# Altium footprint library 400236.PcbLib: 96 footprints (part 3 of 6)
Each footprint in its own frame and in the unit in brackets; x right, y up, seen from the top. Pads: shape width x height; smd on the part's side, far side on the other; paste and mask are expansions set on the pad; w line width, h text height; cw(c..) or ccw(c..) is an arc to the next point about the centre after c.
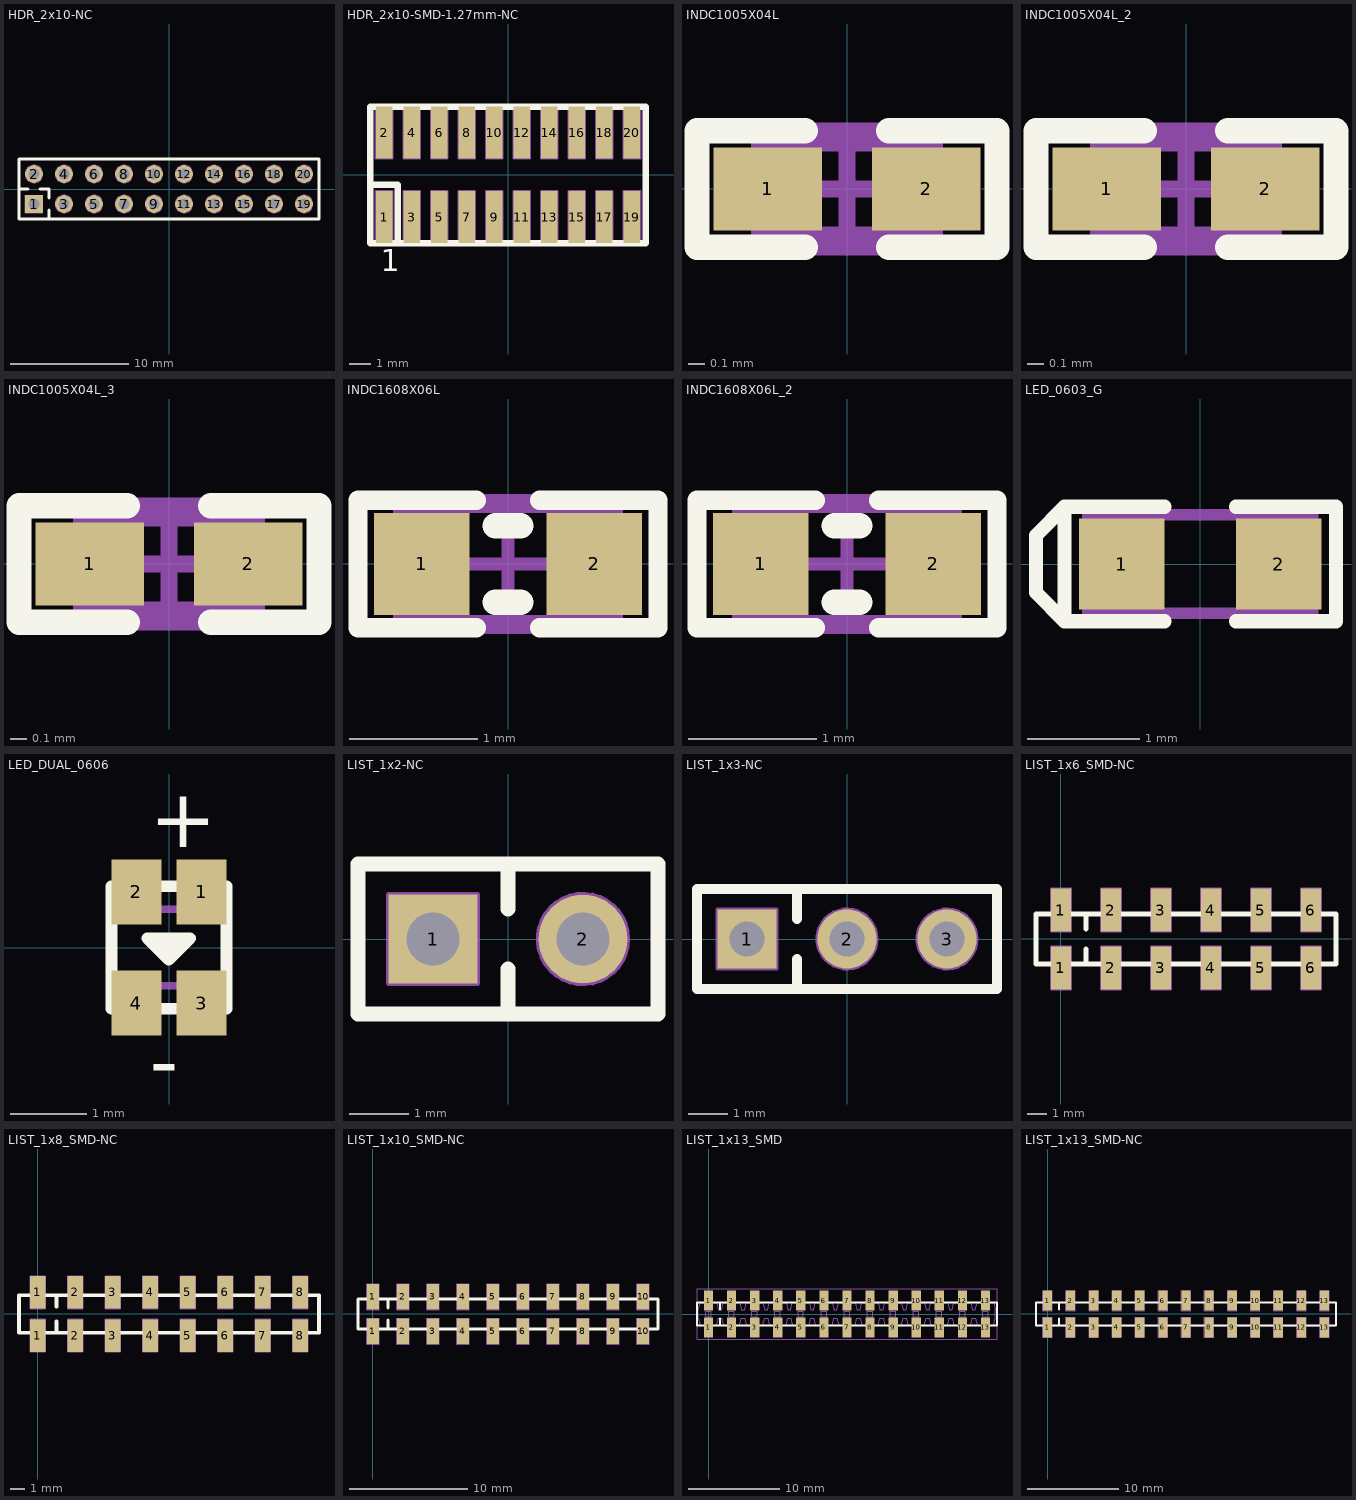
[diagram p2: the footprints below, top view; thin cyan lines are the x and y axes]

## HDR_2x10-NC [mm]
pads (20):
  rect 1.5x1.5 hole 0.9: 1(-11.43,-1.27)
  round 1.5 hole 0.9: 2(-11.43,1.27) 3(-8.89,-1.27) 4(-8.89,1.27) 5(-6.35,-1.27) 6(-6.35,1.27) 7(-3.81,-1.27) 8(-3.81,1.27) 9(-1.27,-1.27) 10(-1.27,1.27) 11(1.27,-1.27) 12(1.27,1.27) 13(3.81,-1.27) 14(3.81,1.27) 15(6.35,-1.27) 16(6.35,1.27) 17(8.89,-1.27) 18(8.89,1.27) 19(11.43,-1.27) 20(11.43,1.27)
Top Overlay:
  lines w0.254: -12.7,0 -11.938,0 ; -10.922,0 -10.16,0 -10.16,-0.762 ; -10.16,-2.54 -10.16,-1.778 ; -12.7,-2.54 -12.7,2.54 12.7,2.54 12.7,-2.54 -12.7,-2.54
Mechanical 7:
  circle w0.1: c-11.43,-1.27 r0.45
  circle w0.1: c-8.89,-1.27 r0.45
  circle w0.1: c-8.89,-1.27 r0.75
  circle w0.1: c-11.43,1.27 r0.75
  circle w0.1: c-11.43,1.27 r0.45
  circle w0.1: c-8.89,1.27 r0.75
  circle w0.1: c-8.89,1.27 r0.45
  circle w0.1: c-6.35,1.27 r0.45
  circle w0.1: c-6.35,1.27 r0.75
  circle w0.1: c-6.35,-1.27 r0.75
  circle w0.1: c-6.35,-1.27 r0.45
  circle w0.1: c-3.81,1.27 r0.45
  circle w0.1: c-3.81,1.27 r0.75
  circle w0.1: c-3.81,-1.27 r0.75
  circle w0.1: c-3.81,-1.27 r0.45
  circle w0.1: c-1.27,1.27 r0.45
  circle w0.1: c-1.27,1.27 r0.75
  circle w0.1: c-1.27,-1.27 r0.75
  circle w0.1: c-1.27,-1.27 r0.45
  circle w0.1: c1.27,1.27 r0.45
  circle w0.1: c1.27,1.27 r0.75
  circle w0.1: c1.27,-1.27 r0.75
  circle w0.1: c1.27,-1.27 r0.45
  circle w0.1: c3.81,1.27 r0.45
  circle w0.1: c3.81,1.27 r0.75
  circle w0.1: c3.81,-1.27 r0.75
  circle w0.1: c3.81,-1.27 r0.45
  circle w0.1: c6.35,1.27 r0.45
  circle w0.1: c6.35,1.27 r0.75
  circle w0.1: c6.35,-1.27 r0.75
  circle w0.1: c6.35,-1.27 r0.45
  circle w0.1: c8.89,1.27 r0.45
  circle w0.1: c8.89,1.27 r0.75
  circle w0.1: c8.89,-1.27 r0.75
  circle w0.1: c8.89,-1.27 r0.45
  circle w0.1: c11.43,1.27 r0.45
  circle w0.1: c11.43,1.27 r0.75
  circle w0.1: c11.43,-1.27 r0.75
  circle w0.1: c11.43,-1.27 r0.45
  lines w0.1: -12.7,0 -11.938,0 ; -10.922,0 -10.16,0 -10.16,-0.762 ; -10.16,-2.54 -10.16,-1.778 ; -12.7,-2.54 12.7,-2.54 12.7,2.54 -12.7,2.54 -12.7,-2.54 ; -12.18,-2.02 -12.18,-0.52 -10.68,-0.52 -10.68,-2.02 -12.18,-2.02
  text ".Designator" at -0.525,-0.1 h0.31
Mechanical 8:
  circle w0.1: c11.43,-1.27 r0.45
  circle w0.1: c11.43,-1.27 r0.75
  circle w0.1: c11.43,1.27 r0.75
  circle w0.1: c11.43,1.27 r0.45
  circle w0.1: c8.89,-1.27 r0.45
  circle w0.1: c8.89,-1.27 r0.75
  circle w0.1: c8.89,1.27 r0.75
  circle w0.1: c8.89,1.27 r0.45
  circle w0.1: c6.35,-1.27 r0.45
  circle w0.1: c6.35,-1.27 r0.75
  circle w0.1: c6.35,1.27 r0.75
  circle w0.1: c6.35,1.27 r0.45
  circle w0.1: c3.81,-1.27 r0.45
  circle w0.1: c3.81,-1.27 r0.75
  circle w0.1: c3.81,1.27 r0.75
  circle w0.1: c3.81,1.27 r0.45
  circle w0.1: c1.27,-1.27 r0.45
  circle w0.1: c1.27,-1.27 r0.75
  circle w0.1: c1.27,1.27 r0.75
  circle w0.1: c1.27,1.27 r0.45
  circle w0.1: c-1.27,-1.27 r0.45
  circle w0.1: c-1.27,-1.27 r0.75
  circle w0.1: c-1.27,1.27 r0.75
  circle w0.1: c-1.27,1.27 r0.45
  circle w0.1: c-3.81,-1.27 r0.45
  circle w0.1: c-3.81,-1.27 r0.75
  circle w0.1: c-3.81,1.27 r0.75
  circle w0.1: c-3.81,1.27 r0.45
  circle w0.1: c-6.35,-1.27 r0.45
  circle w0.1: c-6.35,-1.27 r0.75
  circle w0.1: c-6.35,1.27 r0.75
  circle w0.1: c-6.35,1.27 r0.45
  circle w0.1: c-8.89,1.27 r0.45
  circle w0.1: c-8.89,1.27 r0.75
  circle w0.1: c-11.43,1.27 r0.45
  circle w0.1: c-11.43,1.27 r0.75
  circle w0.1: c-8.89,-1.27 r0.75
  circle w0.1: c-8.89,-1.27 r0.45
  circle w0.1: c-11.43,-1.27 r0.45
  lines w0.1: -12.18,-2.02 -10.68,-2.02 -10.68,-0.52 -12.18,-0.52 -12.18,-2.02

## HDR_2x10-SMD-1.27mm-NC [mm]
pads (20):
  rect 0.76x2.4 smd paste-5: 1(-5.715,-1.95) 2(-5.715,1.95) 3(-4.445,-1.95) 4(-4.445,1.95) 5(-3.175,-1.95) 6(-3.175,1.95) 7(-1.905,-1.95) 8(-1.905,1.95) 9(-0.635,-1.95) 10(-0.635,1.95) 11(0.635,-1.95) 12(0.635,1.95) 13(1.905,-1.95) 14(1.905,1.95) 15(3.175,-1.95) 16(3.175,1.95) 17(4.445,-1.95) 18(4.445,1.95) 19(5.715,-1.95) 20(5.715,1.95)
Top Overlay:
  lines w0.3: -6.35,-0.45 -5.075,-0.45 -5.075,-3.15 ; -6.35,-3.15 6.35,-3.15 6.35,3.15 -6.35,3.15 -6.35,-3.15
  text "1" at -5.875,-4.45 h1.02
Mechanical 7:
  lines w0.1: -6.35,-3.15 -6.35,3.15 6.35,3.15 6.35,-3.15 -6.35,-3.15 ; -6.095,-3.15 -6.095,-0.75 -5.335,-0.75 -5.335,-3.15 -6.095,-3.15 ; -6.095,0.75 -6.095,3.15 -5.335,3.15 -5.335,0.75 -6.095,0.75 ; -4.825,-3.15 -4.825,-0.75 -4.065,-0.75 -4.065,-3.15 -4.825,-3.15 ; -4.825,0.75 -4.825,3.15 -4.065,3.15 -4.065,0.75 -4.825,0.75 ; -3.555,-3.15 -3.555,-0.75 -2.795,-0.75 -2.795,-3.15 -3.555,-3.15 ; -3.555,0.75 -2.795,0.75 -2.795,3.15 -3.555,3.15 -3.555,0.75 ; -2.285,-3.15 -2.285,-0.75 -1.525,-0.75 -1.525,-3.15 -2.285,-3.15 ; -2.285,0.75 -2.285,3.15 -1.525,3.15 -1.525,0.75 -2.285,0.75 ; -1.015,-3.15 -1.015,-0.75 -0.255,-0.75 -0.255,-3.15 -1.015,-3.15 ; -1.015,0.75 -1.015,3.15 -0.255,3.15 -0.255,0.75 -1.015,0.75 ; 0.255,-3.15 0.255,-0.75 1.015,-0.75 1.015,-3.15 0.255,-3.15 ; 0.255,0.75 0.255,3.15 1.015,3.15 1.015,0.75 0.255,0.75 ; 1.525,-3.15 1.525,-0.75 2.285,-0.75 2.285,-3.15 1.525,-3.15 ; 1.525,0.75 1.525,3.15 2.285,3.15 2.285,0.75 1.525,0.75 ; 2.795,-3.15 2.795,-0.75 3.555,-0.75 3.555,-3.15 2.795,-3.15 ; 2.795,0.75 2.795,3.15 3.555,3.15 3.555,0.75 2.795,0.75 ; 4.065,-3.15 4.065,-0.75 4.825,-0.75 4.825,-3.15 4.065,-3.15 ; 4.065,0.75 4.065,3.15 4.825,3.15 4.825,0.75 4.065,0.75 ; 5.335,-3.15 5.335,-0.75 6.095,-0.75 6.095,-3.15 5.335,-3.15 ; 5.335,0.75 5.335,3.15 6.095,3.15 6.095,0.75 5.335,0.75
  text ".Designator" at 0.483,0.152 h0.3

## INDC1005X04L [mm]
pads (2):
  rect 0.65x0.5 smd: 1(-0.475,0) 2(0.475,0)
Top Overlay:
  lines w0.152: -0.25,-0.35 -0.9,-0.35 -0.9,0.35 -0.25,0.35 ; 0.25,-0.35 0.9,-0.35 0.9,0.35 0.25,0.35
Mechanical 7:
  lines w0.1: -0.525,-0.275 -0.525,0.275 0.525,0.275 0.525,-0.275 -0.525,-0.275
  text ".Designator" at 0.264,0.161 h0.3
Mechanical 15:
  lines w0.1: -0.275,0 0.275,0 ; 0,-0.275 0,0.275 ; -0.9,-0.35 -0.9,0.35 0.9,0.35 0.9,-0.35 -0.9,-0.35
3D body "User Library-Chip Inductor 0402.step": height 0.5, standoff 0, extent -0.5,-0.3 0.5,0.3

## INDC1005X04L_2 [mm]
pads (2):
  rect 0.65x0.5 smd: 1(-0.475,0) 2(0.475,0)
Top Overlay:
  lines w0.152: -0.25,-0.35 -0.9,-0.35 -0.9,0.35 -0.25,0.35 ; 0.25,-0.35 0.9,-0.35 0.9,0.35 0.25,0.35
Mechanical 7:
  lines w0.1: -0.525,-0.275 -0.525,0.275 0.525,0.275 0.525,-0.275 -0.525,-0.275
  text ".Designator" at -0.406,-0.152 h0.3
Mechanical 15:
  lines w0.1: -0.275,0 0.275,0 ; 0,-0.275 0,0.275 ; -0.9,-0.35 -0.9,0.35 0.9,0.35 0.9,-0.35 -0.9,-0.35
3D body "User Library-Chip Inductor 0402.step": height 0.5, standoff 0, extent -0.5,-0.3 0.5,0.3

## INDC1005X04L_3 [mm]
pads (2):
  rect 0.65x0.5 smd: 1(-0.475,0) 2(0.475,0)
Top Overlay:
  lines w0.152: -0.25,-0.35 -0.9,-0.35 -0.9,0.35 -0.25,0.35 ; 0.25,-0.35 0.9,-0.35 0.9,0.35 0.25,0.35
Mechanical 7:
  lines w0.1: -0.525,-0.275 0.525,-0.275 0.525,0.275 -0.525,0.275 -0.525,-0.275
  text ".Designator" at -0.432,-0.152 h0.3
Mechanical 15:
  lines w0.1: -0.275,0 0.275,0 ; 0,-0.275 0,0.275 ; -0.9,-0.35 0.9,-0.35 0.9,0.35 -0.9,0.35 -0.9,-0.35
3D body "User Library-Chip Inductor 0402.step": height 0.5, standoff 0, extent -0.5,-0.3 0.5,0.3

## INDC1608X06L [mm]
pads (2):
  rect 0.75x0.8 smd: 1(-0.675,0) 2(0.675,0)
Top Overlay:
  lines w0.152: -0.25,-0.5 -1.175,-0.5 -1.175,0.5 -0.25,0.5 ; 0.25,-0.5 1.175,-0.5 1.175,0.5 0.25,0.5
  lines w0.2: -0.1,-0.3 0.1,-0.3 ; -0.1,0.3 0.1,0.3
Mechanical 7:
  lines w0.1: -0.85,-0.45 0.85,-0.45 0.85,0.45 -0.85,0.45 -0.85,-0.45
  text ".Designator" at 0.265,0.161 h0.3
Mechanical 15:
  lines w0.1: -0.45,0 0.45,0 ; 0,-0.45 0,0.45 ; -1.175,-0.5 -1.175,0.5 1.175,0.5 1.175,-0.5 -1.175,-0.5
3D body "User Library-Chip Inductor.step": height 0.8, standoff 0, extent -0.8,-0.475 0.8,0.475

## INDC1608X06L_2 [mm]
pads (2):
  rect 0.75x0.8 smd: 1(-0.675,0) 2(0.675,0)
Top Overlay:
  lines w0.152: -0.25,-0.5 -1.175,-0.5 -1.175,0.5 -0.25,0.5 ; 0.25,-0.5 1.175,-0.5 1.175,0.5 0.25,0.5
  lines w0.2: -0.1,-0.3 0.1,-0.3 ; -0.1,0.3 0.1,0.3
Mechanical 7:
  lines w0.1: -0.85,-0.45 0.85,-0.45 0.85,0.45 -0.85,0.45 -0.85,-0.45
  text ".Designator" at -0.252,-0.15 h0.3
Mechanical 15:
  lines w0.1: -0.45,0 0.45,0 ; 0,-0.45 0,0.45 ; -1.175,-0.5 -1.175,0.5 1.175,0.5 1.175,-0.5 -1.175,-0.5
3D body "User Library-Chip Inductor.step": height 0.8, standoff 0, extent -0.8,-0.475 0.8,0.475

## LED_0603_G [mil]
pads (2):
  rect 30x32 smd: 1(-27.5,0) 2(27.5,0)
Top Overlay:
  lines w5: -12.5,-20 -47.5,-20 ; -12.5,20 -47.5,20 ; 12.5,-20 47.5,-20 47.5,20 12.5,20 ; -47.5,-20 -57.5,-10 -57.5,10 -47.5,20 ; -47.5,-20 -47.5,20
Mechanical 7:
  lines w3.94: -27.56,-17.26 -27.56,17.26 ; -23.62,-17.26 -23.62,17.26 ; 23.62,-17.26 23.62,17.26 ; 27.56,-17.26 27.56,17.26 ; -39.37,-17.26 -39.37,17.26 39.37,17.26 39.37,-17.26 -39.37,-17.26
  text ".Designator" at -13.36,-5.15 h12
3D body "User Library-led_0603_green.step": height 23.62, standoff 0, extent -31.63,-15.75 32.15,15.75

## LED_DUAL_0606 [mm]
pads (4):
  rect 0.65x0.85 smd paste+0: 1(0.425,0.725) 2(-0.425,0.725) 3(0.425,-0.725) 4(-0.425,-0.725)
Top Overlay:
  region: -0.285,0.12 -0.005,-0.16 0.275,0.12
  lines w0.15: -0.75,-0.8 0.75,-0.8 ; -0.75,0.8 0.75,0.8
  lines w0.152: -0.75,-0.8 -0.75,0.8 ; 0.75,-0.8 0.75,0.8 ; -0.285,0.12 0.275,0.12 -0.005,-0.16 -0.285,0.12
  text "-" at -0.254,-1.845 h0.76
  text "+" at -0.254,1.305 h0.76
Mechanical 7:
  lines w0.1: -0.75,-0.5 0.75,-0.5 ; -0.75,0.5 0.75,0.5 ; -0.75,-0.8 -0.75,0.8 0.75,0.8 0.75,-0.8 -0.75,-0.8
  text ".Designator" at 0.564,0.137 h0.3
3D body: height 0.36, standoff 0.18, extent 0.235,-0.15 0.535,0.15
3D body: height 0.36, standoff 0.18, extent -0.525,-0.15 -0.225,0.15
3D body: height 0.55, standoff 0.18, extent -0.75,-0.55 0.75,0.55
3D body: height 0.18, standoff 0, extent -0.75,-0.8 0.75,0.8

## LIST_1x2-NC [mm]
pads (2):
  rect 1.5x1.5 hole 0.9: 1(-1.27,0)
  round 1.5 hole 0.9: 2(1.27,0)
Top Overlay:
  lines w0.254: 0,-1.27 0,-0.508 ; 0,0.508 0,1.27 ; -2.54,-1.27 2.54,-1.27 2.54,1.27 -2.54,1.27 -2.54,-1.27
Mechanical 7:
  circle w0.1: c1.27,0 r0.75
  circle w0.1: c1.27,0 r0.45
  circle w0.1: c-1.27,0 r0.45
  lines w0.1: 0,-1.27 0,-0.508 ; 0,0.508 0,1.27 ; -2.54,-1.27 -2.54,1.27 2.54,1.27 2.54,-1.27 -2.54,-1.27 ; -2.02,-0.75 -0.52,-0.75 -0.52,0.75 -2.02,0.75 -2.02,-0.75
  text ".Designator" at -0.4,-0.2 h0.38

## LIST_1x3-NC [mm]
pads (3):
  rect 1.5x1.5 hole 0.9: 1(-2.54,0)
  round 1.5 hole 0.9: 2(0,0) 3(2.54,0)
Top Overlay:
  lines w0.254: -1.27,-1.27 -1.27,-0.508 ; -1.27,0.508 -1.27,1.27 ; -3.81,-1.27 3.81,-1.27 3.81,1.27 -3.81,1.27 -3.81,-1.27
Mechanical 7:
  circle w0.1: c2.54,0 r0.75
  circle w0.1: c2.54,0 r0.45
  circle w0.1: c-2.54,0 r0.45
  circle w0.1: c0,0 r0.45
  circle w0.1: c0,0 r0.75
  lines w0.1: -1.27,-1.27 -1.27,-0.508 ; -1.27,0.508 -1.27,1.27 ; -3.81,-1.27 3.81,-1.27 3.81,1.27 -3.81,1.27 -3.81,-1.27 ; -3.29,-0.75 -3.29,0.75 -1.79,0.75 -1.79,-0.75 -3.29,-0.75
  text ".Designator" at -2.04,-0.2 h0.38

## LIST_1x6_SMD-NC [mm]
pads (12):
  rect 1.02x2.19 smd paste+0: 1(0,-1.465) 1(0,1.465) 2(2.54,-1.465) 2(2.54,1.465) 3(5.08,-1.465) 3(5.08,1.465) 4(7.62,-1.465) 4(7.62,1.465) 5(10.16,-1.465) 5(10.16,1.465) 6(12.7,-1.465) 6(12.7,1.465)
Top Overlay:
  lines w0.254: 1.27,-1.27 1.27,-0.508 ; 1.27,0.508 1.27,1.27 ; -1.27,-1.27 13.97,-1.27 13.97,1.27 -1.27,1.27 -1.27,-1.27
Mechanical 7:
  lines w0.1: -0.686,-1.27 -1.27,-1.27 -1.27,1.27 -0.686,1.27 ; 0.686,-1.27 1.854,-1.27 ; 0.686,1.27 1.854,1.27 ; 1.27,-1.27 1.27,-0.508 ; 1.27,0.508 1.27,1.27 ; 3.226,-1.27 4.394,-1.27 ; 3.226,1.27 4.394,1.27 ; 5.766,-1.27 6.934,-1.27 ; 5.766,1.27 6.934,1.27 ; 8.306,-1.27 9.474,-1.27 ; 8.306,1.27 9.474,1.27 ; 10.846,-1.27 12.014,-1.27 ; 10.846,1.27 12.014,1.27 ; 13.386,-1.27 13.97,-1.27 13.97,1.27 13.386,1.27 ; -0.51,-2.56 0.51,-2.56 0.51,-0.37 -0.51,-0.37 -0.51,-2.56 ; -0.51,0.37 -0.51,2.56 0.51,2.56 0.51,0.37 -0.51,0.37 ; 2.03,-2.56 3.05,-2.56 3.05,-0.37 2.03,-0.37 2.03,-2.56 ; 2.03,0.37 3.05,0.37 3.05,2.56 2.03,2.56 2.03,0.37 ; 4.57,-2.56 5.59,-2.56 5.59,-0.37 4.57,-0.37 4.57,-2.56 ; 4.57,0.37 5.59,0.37 5.59,2.56 4.57,2.56 4.57,0.37 ; 7.11,-2.56 8.13,-2.56 8.13,-0.37 7.11,-0.37 7.11,-2.56 ; 7.11,0.37 8.13,0.37 8.13,2.56 7.11,2.56 7.11,0.37 ; 9.65,-2.56 10.67,-2.56 10.67,-0.37 9.65,-0.37 9.65,-2.56 ; 9.65,0.37 10.67,0.37 10.67,2.56 9.65,2.56 9.65,0.37 ; 12.19,-2.56 13.21,-2.56 13.21,-0.37 12.19,-0.37 12.19,-2.56 ; 12.19,0.37 13.21,0.37 13.21,2.56 12.19,2.56 12.19,0.37
  text ".Designator" at 0.5,-0.2 h0.38

## LIST_1x8_SMD-NC [mm]
pads (16):
  rect 1.02x2.19 smd paste+0: 1(0,-1.465) 1(0,1.465) 2(2.54,-1.465) 2(2.54,1.465) 3(5.08,-1.465) 3(5.08,1.465) 4(7.62,-1.465) 4(7.62,1.465) 5(10.16,-1.465) 5(10.16,1.465) 6(12.7,-1.465) 6(12.7,1.465) 7(15.24,-1.465) 7(15.24,1.465) 8(17.78,-1.465) 8(17.78,1.465)
Top Overlay:
  lines w0.254: 1.27,-1.27 1.27,-0.508 ; 1.27,0.508 1.27,1.27 ; -1.27,-1.27 -1.27,1.27 19.05,1.27 19.05,-1.27 -1.27,-1.27
Mechanical 7:
  lines w0.1: -0.686,-1.27 -1.27,-1.27 -1.27,1.27 -0.686,1.27 ; 0.686,-1.27 1.854,-1.27 ; 0.686,1.27 1.854,1.27 ; 1.27,-1.27 1.27,-0.508 ; 1.27,0.508 1.27,1.27 ; 3.226,-1.27 4.394,-1.27 ; 3.226,1.27 4.394,1.27 ; 5.766,-1.27 6.934,-1.27 ; 5.766,1.27 6.934,1.27 ; 8.306,-1.27 9.474,-1.27 ; 8.306,1.27 9.474,1.27 ; 10.846,-1.27 12.014,-1.27 ; 10.846,1.27 12.014,1.27 ; 13.386,-1.27 14.554,-1.27 ; 13.386,1.27 14.554,1.27 ; 15.926,-1.27 17.094,-1.27 ; 15.926,1.27 17.094,1.27 ; 18.466,-1.27 19.05,-1.27 19.05,1.27 18.466,1.27 ; -0.51,-2.56 -0.51,-0.37 0.51,-0.37 0.51,-2.56 -0.51,-2.56 ; -0.51,0.37 0.51,0.37 0.51,2.56 -0.51,2.56 -0.51,0.37 ; 2.03,-2.56 2.03,-0.37 3.05,-0.37 3.05,-2.56 2.03,-2.56 ; 2.03,0.37 2.03,2.56 3.05,2.56 3.05,0.37 2.03,0.37 ; 4.57,-2.56 4.57,-0.37 5.59,-0.37 5.59,-2.56 4.57,-2.56 ; 4.57,0.37 4.57,2.56 5.59,2.56 5.59,0.37 4.57,0.37 ; 7.11,-2.56 7.11,-0.37 8.13,-0.37 8.13,-2.56 7.11,-2.56 ; 7.11,0.37 7.11,2.56 8.13,2.56 8.13,0.37 7.11,0.37 ; 9.65,-2.56 9.65,-0.37 10.67,-0.37 10.67,-2.56 9.65,-2.56 ; 9.65,0.37 9.65,2.56 10.67,2.56 10.67,0.37 9.65,0.37 ; 12.19,-2.56 12.19,-0.37 13.21,-0.37 13.21,-2.56 12.19,-2.56 ; 12.19,0.37 12.19,2.56 13.21,2.56 13.21,0.37 12.19,0.37 ; 14.73,-2.56 14.73,-0.37 15.75,-0.37 15.75,-2.56 14.73,-2.56 ; 14.73,0.37 14.73,2.56 15.75,2.56 15.75,0.37 14.73,0.37 ; 17.27,-2.56 17.27,-0.37 18.29,-0.37 18.29,-2.56 17.27,-2.56 ; 17.27,0.37 17.27,2.56 18.29,2.56 18.29,0.37 17.27,0.37
  text ".Designator" at 0.5,-0.2 h0.38

## LIST_1x10_SMD-NC [mm]
pads (20):
  rect 1.02x2.19 smd paste+0: 1(0,-1.465) 1(0,1.465) 2(2.54,-1.465) 2(2.54,1.465) 3(5.08,-1.465) 3(5.08,1.465) 4(7.62,-1.465) 4(7.62,1.465) 5(10.16,-1.465) 5(10.16,1.465) 6(12.7,-1.465) 6(12.7,1.465) 7(15.24,-1.465) 7(15.24,1.465) 8(17.78,-1.465) 8(17.78,1.465) 9(20.32,-1.465) 9(20.32,1.465) 10(22.86,-1.465) 10(22.86,1.465)
Top Overlay:
  lines w0.254: 1.27,-1.27 1.27,-0.508 ; 1.27,0.508 1.27,1.27 ; -1.27,-1.27 24.13,-1.27 24.13,1.27 -1.27,1.27 -1.27,-1.27
Mechanical 7:
  lines w0.1: -0.686,-1.27 -1.27,-1.27 -1.27,1.27 -0.686,1.27 ; 0.686,-1.27 1.854,-1.27 ; 0.686,1.27 1.854,1.27 ; 1.27,-1.27 1.27,-0.508 ; 1.27,0.508 1.27,1.27 ; 3.226,-1.27 4.394,-1.27 ; 3.226,1.27 4.394,1.27 ; 5.766,-1.27 6.934,-1.27 ; 5.766,1.27 6.934,1.27 ; 8.306,-1.27 9.474,-1.27 ; 8.306,1.27 9.474,1.27 ; 10.846,-1.27 12.014,-1.27 ; 10.846,1.27 12.014,1.27 ; 13.386,-1.27 14.554,-1.27 ; 13.386,1.27 14.554,1.27 ; 15.926,-1.27 17.094,-1.27 ; 15.926,1.27 17.094,1.27 ; 18.466,-1.27 19.634,-1.27 ; 18.466,1.27 19.634,1.27 ; 21.006,-1.27 22.174,-1.27 ; 21.006,1.27 22.174,1.27 ; 23.546,-1.27 24.13,-1.27 24.13,1.27 23.546,1.27 ; -0.51,-2.56 0.51,-2.56 0.51,-0.37 -0.51,-0.37 -0.51,-2.56 ; -0.51,0.37 -0.51,2.56 0.51,2.56 0.51,0.37 -0.51,0.37 ; 2.03,-2.56 3.05,-2.56 3.05,-0.37 2.03,-0.37 2.03,-2.56 ; 2.03,0.37 3.05,0.37 3.05,2.56 2.03,2.56 2.03,0.37 ; 4.57,-2.56 5.59,-2.56 5.59,-0.37 4.57,-0.37 4.57,-2.56 ; 4.57,0.37 5.59,0.37 5.59,2.56 4.57,2.56 4.57,0.37 ; 7.11,-2.56 8.13,-2.56 8.13,-0.37 7.11,-0.37 7.11,-2.56 ; 7.11,0.37 8.13,0.37 8.13,2.56 7.11,2.56 7.11,0.37 ; 9.65,-2.56 10.67,-2.56 10.67,-0.37 9.65,-0.37 9.65,-2.56 ; 9.65,0.37 10.67,0.37 10.67,2.56 9.65,2.56 9.65,0.37 ; 12.19,-2.56 13.21,-2.56 13.21,-0.37 12.19,-0.37 12.19,-2.56 ; 12.19,0.37 13.21,0.37 13.21,2.56 12.19,2.56 12.19,0.37 ; 14.73,-2.56 15.75,-2.56 15.75,-0.37 14.73,-0.37 14.73,-2.56 ; 14.73,0.37 15.75,0.37 15.75,2.56 14.73,2.56 14.73,0.37 ; 17.27,-2.56 18.29,-2.56 18.29,-0.37 17.27,-0.37 17.27,-2.56 ; 17.27,0.37 18.29,0.37 18.29,2.56 17.27,2.56 17.27,0.37 ; 19.81,-2.56 19.81,-0.37 20.83,-0.37 20.83,-2.56 19.81,-2.56 ; 19.81,0.37 19.81,2.56 20.83,2.56 20.83,0.37 19.81,0.37 ; 22.35,-2.56 22.35,-0.37 23.37,-0.37 23.37,-2.56 22.35,-2.56 ; 22.35,0.37 22.35,2.56 23.37,2.56 23.37,0.37 22.35,0.37
  text ".Designator" at 0.5,-0.2 h0.38

## LIST_1x13_SMD [mm]
pads (26):
  rect 1.02x2.19 smd: 1(0,-1.465) 1(0,1.465) 2(2.54,-1.465) 2(2.54,1.465) 3(5.08,-1.465) 3(5.08,1.465) 4(7.62,-1.465) 4(7.62,1.465) 5(10.16,-1.465) 5(10.16,1.465) 6(12.7,-1.465) 6(12.7,1.465) 7(15.24,-1.465) 7(15.24,1.465) 8(17.78,-1.465) 8(17.78,1.465) 9(20.32,-1.465) 9(20.32,1.465) 10(22.86,-1.465) 10(22.86,1.465) 11(25.4,-1.465) 11(25.4,1.465) 12(27.94,-1.465) 12(27.94,1.465) 13(30.48,-1.465) 13(30.48,1.465)
Top Overlay:
  lines w0.254: 1.27,-1.27 1.27,-0.508 ; 1.27,0.508 1.27,1.27 ; -1.27,-1.27 -1.27,1.27 31.75,1.27 31.75,-1.27 -1.27,-1.27
Mechanical 7:
  drawing of 195 lines, arcs and shapes, not listed
  text ".Designator" at 0.5,-0.2 h0.38
Mechanical 15:
  lines w0.1: -1.27,-2.8 31.75,-2.8 31.75,2.8 -1.27,2.8 -1.27,-2.8
3D body "pin_header_a-sl254-eg-g13mp1.stp": height 9.82, standoff -0.02, extent -1.27,-2.5 31.75,2.5

## LIST_1x13_SMD-NC [mm]
pads (26):
  rect 1.02x2.19 smd: 1(0,-1.465) 1(0,1.465) 2(2.54,-1.465) 2(2.54,1.465) 3(5.08,-1.465) 3(5.08,1.465) 4(7.62,-1.465) 4(7.62,1.465) 5(10.16,-1.465) 5(10.16,1.465) 6(12.7,-1.465) 6(12.7,1.465) 7(15.24,-1.465) 7(15.24,1.465) 8(17.78,-1.465) 8(17.78,1.465) 9(20.32,-1.465) 9(20.32,1.465) 10(22.86,-1.465) 10(22.86,1.465) 11(25.4,-1.465) 11(25.4,1.465) 12(27.94,-1.465) 12(27.94,1.465) 13(30.48,-1.465) 13(30.48,1.465)
Top Overlay:
  lines w0.254: 1.27,-1.27 1.27,-0.508 ; 1.27,0.508 1.27,1.27 ; -1.27,-1.27 -1.27,1.27 31.75,1.27 31.75,-1.27 -1.27,-1.27
Mechanical 7:
  lines w0.1: -0.686,-1.27 -1.27,-1.27 -1.27,1.27 -0.686,1.27 ; 0.686,-1.27 1.854,-1.27 ; 0.686,1.27 1.854,1.27 ; 1.27,-1.27 1.27,-0.508 ; 1.27,0.508 1.27,1.27 ; 3.226,-1.27 4.394,-1.27 ; 3.226,1.27 4.394,1.27 ; 5.766,-1.27 6.934,-1.27 ; 5.766,1.27 6.934,1.27 ; 8.306,-1.27 9.474,-1.27 ; 8.306,1.27 9.474,1.27 ; 10.846,-1.27 12.014,-1.27 ; 10.846,1.27 12.014,1.27 ; 13.386,-1.27 14.554,-1.27 ; 13.386,1.27 14.554,1.27 ; 15.926,-1.27 17.094,-1.27 ; 15.926,1.27 17.094,1.27 ; 18.466,-1.27 19.634,-1.27 ; 18.466,1.27 19.634,1.27 ; 21.006,-1.27 22.174,-1.27 ; 21.006,1.27 22.174,1.27 ; 23.546,-1.27 24.714,-1.27 ; 23.546,1.27 24.714,1.27 ; 26.086,-1.27 27.254,-1.27 ; 26.086,1.27 27.254,1.27 ; 28.626,-1.27 29.794,-1.27 ; 28.626,1.27 29.794,1.27 ; 31.166,-1.27 31.75,-1.27 31.75,1.27 31.166,1.27 ; -0.51,-2.56 -0.51,-0.37 0.51,-0.37 0.51,-2.56 -0.51,-2.56 ; -0.51,0.37 0.51,0.37 0.51,2.56 -0.51,2.56 -0.51,0.37 ; 2.03,-2.56 2.03,-0.37 3.05,-0.37 3.05,-2.56 2.03,-2.56 ; 2.03,0.37 2.03,2.56 3.05,2.56 3.05,0.37 2.03,0.37 ; 4.57,-2.56 4.57,-0.37 5.59,-0.37 5.59,-2.56 4.57,-2.56 ; 4.57,0.37 4.57,2.56 5.59,2.56 5.59,0.37 4.57,0.37 ; 7.11,-2.56 7.11,-0.37 8.13,-0.37 8.13,-2.56 7.11,-2.56 ; 7.11,0.37 7.11,2.56 8.13,2.56 8.13,0.37 7.11,0.37 ; 9.65,-2.56 9.65,-0.37 10.67,-0.37 10.67,-2.56 9.65,-2.56 ; 9.65,0.37 9.65,2.56 10.67,2.56 10.67,0.37 9.65,0.37 ; 12.19,-2.56 12.19,-0.37 13.21,-0.37 13.21,-2.56 12.19,-2.56 ; 12.19,0.37 12.19,2.56 13.21,2.56 13.21,0.37 12.19,0.37 ; 14.73,-2.56 14.73,-0.37 15.75,-0.37 15.75,-2.56 14.73,-2.56 ; 14.73,0.37 14.73,2.56 15.75,2.56 15.75,0.37 14.73,0.37 ; 17.27,-2.56 17.27,-0.37 18.29,-0.37 18.29,-2.56 17.27,-2.56 ; 17.27,0.37 17.27,2.56 18.29,2.56 18.29,0.37 17.27,0.37 ; 19.81,-2.56 20.83,-2.56 20.83,-0.37 19.81,-0.37 19.81,-2.56 ; 19.81,0.37 20.83,0.37 20.83,2.56 19.81,2.56 19.81,0.37 ; 22.35,-2.56 23.37,-2.56 23.37,-0.37 22.35,-0.37 22.35,-2.56 ; 22.35,0.37 23.37,0.37 23.37,2.56 22.35,2.56 22.35,0.37 ; 24.89,-2.56 25.91,-2.56 25.91,-0.37 24.89,-0.37 24.89,-2.56 ; 24.89,0.37 25.91,0.37 25.91,2.56 24.89,2.56 24.89,0.37 ; 27.43,-2.56 28.45,-2.56 28.45,-0.37 27.43,-0.37 27.43,-2.56 ; 27.43,0.37 28.45,0.37 28.45,2.56 27.43,2.56 27.43,0.37 ; 29.97,-2.56 29.97,-0.37 30.99,-0.37 30.99,-2.56 29.97,-2.56 ; 29.97,0.37 29.97,2.56 30.99,2.56 30.99,0.37 29.97,0.37
  text ".Designator" at 0.5,-0.2 h0.38